# EAGLE library part SPARKFUN-ELECTROMECHANICAL_AYZ0202 (library App_Board_V1.31)
SPDT Slide Switch Simple SMD single-pull double-throw slide switch. Good for less than 350mA power switch, switching UARTs between devices, etc. Spark Fun Electronics SKU : COM-00597
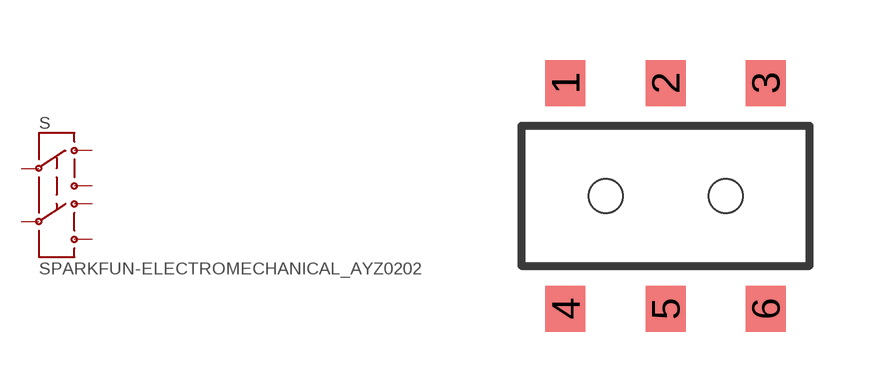
[diagram p1: symbol with the pads of SPARKFUN-ELECTROMECHANICAL_AYZ0202; footprint SPARKFUN-ELECTROMECHANICAL_AYZ0202]

Designator prefix S

## SPARKFUN-ELECTROMECHANICAL_AYZ0202 (PROD_ID: SWCH-08179)  [SPARKFUN-ELECTROMECHANICAL_AYZ0202]
1  3
2  2
3  1
4  6
5  5
6  4

## Footprint SPARKFUN-ELECTROMECHANICAL_AYZ0202 (pad centres in mm)
DPDT Slide Switch SMD www.SparkFun.com SKU : Comp-SMDS
smd 1 x 1.15: 1 -2.5,2.825; 2 0,2.825; 3 2.5,2.825; 4 -2.5,-2.825; 5 0,-2.825; 6 2.5,-2.825
hole 0.85 at 1.5,0
hole 0.85 at -1.5,0